# Altium footprint library ST_SMB.PcbLib: 1 footprints
Each footprint in its own frame and in the unit in brackets; x right, y up, seen from the top. Pads: shape width x height; smd on the part's side, far side on the other; paste and mask are expansions set on the pad; w line width, h text height; cw(c..) or ccw(c..) is an arc to the next point about the centre after c.
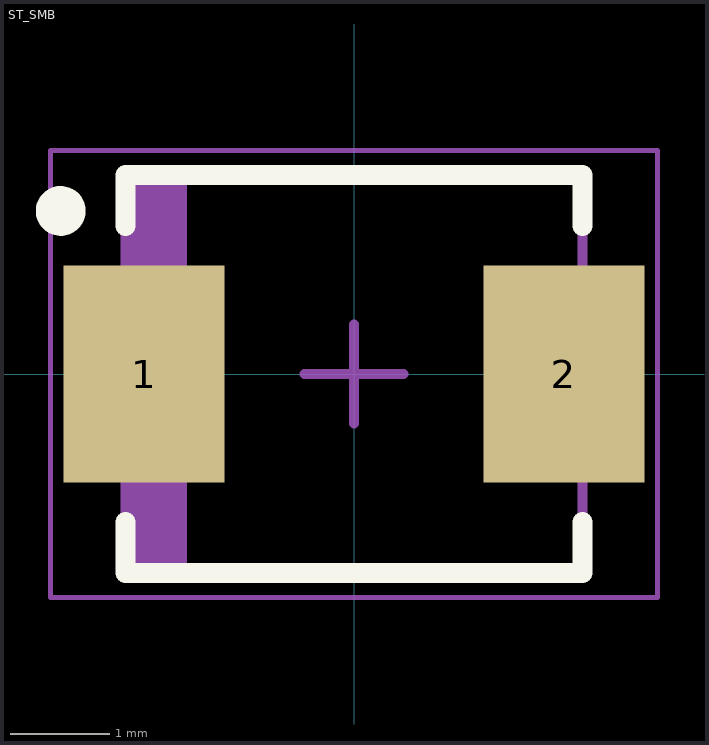
[diagram p0: the footprint, top view; thin cyan lines are the x and y axes]

## ST_SMB [mm] "Molded Diode, 2-Leads, Body 4.32x3.63mm, IPC Medium Density"
height 2.65
pads (2):
  rect 1.62x2.18 smd: 1(-2.11,0) 2(2.11,0)
Top Overlay:
  circle w0.25: c-2.95,1.64 r0.125
  lines w0.2: -2.3,-1.49 -2.3,-2 2.3,-2 2.3,-1.49 ; -2.3,1.49 -2.3,2 2.3,2 2.3,1.49
Mechanical 13:
  rectangle: -2.3,-1.975 -1.681,1.975
  lines w0.1: -2.3,-1.975 -2.3,1.975 2.3,1.975 2.3,-1.975 -2.3,-1.975
Mechanical 15:
  lines w0.05: -3.05,-2.25 -3.05,2.25 3.05,2.25 3.05,-2.25 -3.05,-2.25
  lines w0.1: -0.5,0 0.5,0 ; 0,-0.5 0,0.5
3D body "DIOM4336X26N.step": height 2.65, standoff 0, extent -2.52,-1.975 2.52,1.975